# Altium footprint library 1623020000.PcbLib: 1 footprints
Each footprint in its own frame and in the unit in brackets; x right, y up, seen from the top. Pads: shape width x height; smd on the part's side, far side on the other; paste and mask are expansions set on the pad; w line width, h text height; cw(c..) or ccw(c..) is an arc to the next point about the centre after c.
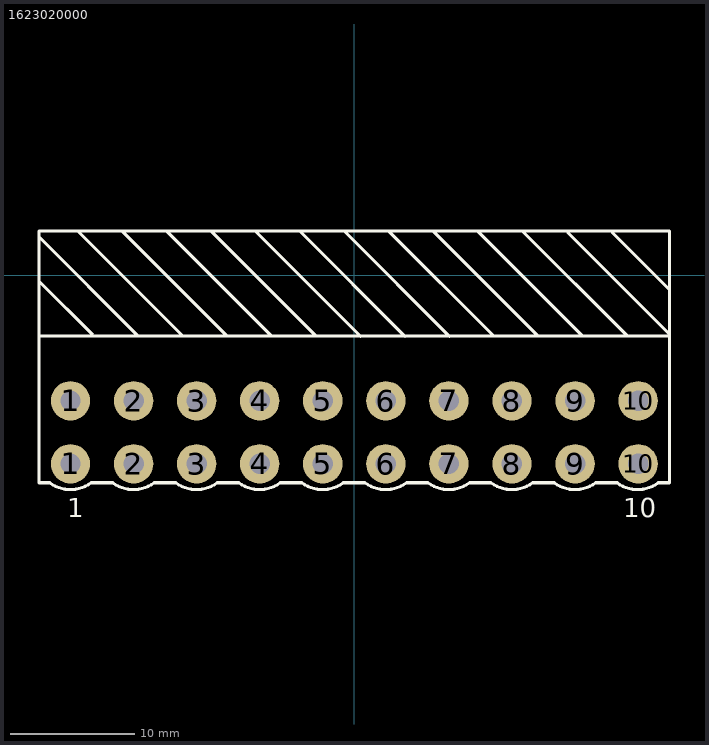
[diagram p0: the footprint, top view; thin cyan lines are the x and y axes]

## 1623020000 [mil]
pads (20):
  round 125 hole 65: 1(-900,-598) 1(-900,-398) 2(-699.89,-598) 2(-699.89,-398) 3(-499.78,-598) 3(-499.78,-398) 4(-299.67,-598) 4(-299.67,-398) 5(-99.56,-598) 5(-99.56,-398) 6(100.56,-598) 6(100.56,-398) 7(300.67,-598) 7(300.67,-398) 8(500.78,-598) 8(500.78,-398) 9(700.89,-598) 9(700.89,-398) 10(901,-598) 10(901,-398)
Top Overlay:
  lines w10: -1000,122 -688,-190 ; -999.5,-19.5 -830,-189 ; -966.14,-658.18 ccw(c-900.52,-570.47) -834.88,-658.16 ; -966,-658 -1000,-658 -1000,-192 ; -878,141 -546,-191 ; -834.88,-658 -766.03,-658 ; -766.03,-658.18 ccw(c-700.41,-570.47) -634.77,-658.16 ; -736,140 -404,-192 ; -634.77,-658 -565.92,-658 ; -595,140 -263,-192 ; -565.92,-658.18 ccw(c-500.3,-570.47) -434.66,-658.16 ; -454,140 -122,-192 ; -434.66,-658 -365.8,-658 ; -365.8,-658.18 ccw(c-300.19,-570.47) -234.55,-658.16 ; -312,139 20,-193 ; -234.55,-658 -165.69,-658 ; -171,139 161,-193 ; -165.69,-658.18 ccw(c-100.08,-570.47) -34.44,-658.16 ; -34.44,-658 34.42,-658 ; -30,139 302,-193 ; 34.42,-658.18 ccw(c100.03,-570.47) 165.68,-658.16 ; 110,140 442,-192 ; 165.68,-658 234.53,-658 ; 234.53,-658.18 ccw(c300.14,-570.47) 365.79,-658.16 ; 251,140 583,-192 ; 365.79,-658 434.64,-658 ; 392,140 724,-192 ; 434.64,-658.18 ccw(c500.25,-570.47) 565.9,-658.16 ; 534,140 866,-192 ; 565.9,-658 634.75,-658 ; 634.75,-658.18 ccw(c700.37,-570.47) 766.01,-658.16 ; 677,137 998.5,-184.5 ; 766.01,-658 834.86,-658 ; 818,137 1000,-45 ; 833.88,-658.16 ccw(c899.52,-570.47) 965.14,-658.18 ; 965,-658 999,-658 ; 1000,-658 1000,-192 ; -1000,-192 -1000,141 0,141 1000,141 1000,-192 ; -1000,-192 0,-192 1000,-192
  text "10" at 854,-767 h60
  text "1" at -910,-767 h60
3D body: height 407.69, standoff -122.98, extent -1000,-657.9 1000,139.35